# Altium schematic symbol library LTC6900.Schlib: 1 symbol
Pins are listed as number, name and electrical type; pins without a type are passive.

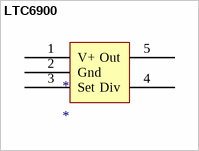
[diagram p0: symbol LTC6900]

## LTC6900
designator *
pins: 1 V+, 2 Gnd, 3 Set, 4 Div, 5 Out